# EAGLE library part DS3231 (library EXCISS)
DS3231M ±5ppm, I2C Real-Time Clock Industry's First Temperature-Compensated RTC with Internal MEMS Resonator Reduces Crystal Mechanical Failure Susceptibility Links Datasheet <https://www.maximintegrated.com/en/products/digital/real-time-clocks/DS3231M.html#modalDatasheet> Product website <https://www.maximintegrated.com/en/products/digital/real-time-clocks/DS3231M.html>
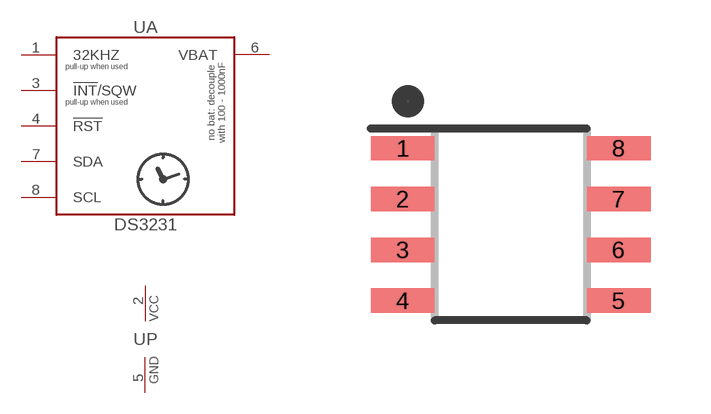
[diagram p9: symbol with the pads of SOIC8; footprint SOIC8]

Designator prefix U; gates A=DS3231 P=POWER

## DS3231MZ+ (OC_MOUSER: 700-DS3231MZ+)  [SOIC8]
1  A:32KHZ  out
2  P:VCC  pwr
3  A:!INT!/SQW  oc
4  A:!RST!  oc
5  P:GND  pwr
6  A:VBAT
7  A:SDA
8  A:SCL  in

## Footprint SOIC8 (pad centres in mm)
smd 1.6 x 0.61: 1 -2.7,1.905; 2 -2.7,0.635; 3 -2.7,-0.635; 4 -2.7,-1.905; 5 2.7,-1.905; 6 2.7,-0.635; 7 2.7,0.635; 8 2.7,1.905